# Altium schematic symbol library WE-RJ45 LAN.SchLib: 105 symbols (part 2 of 2)
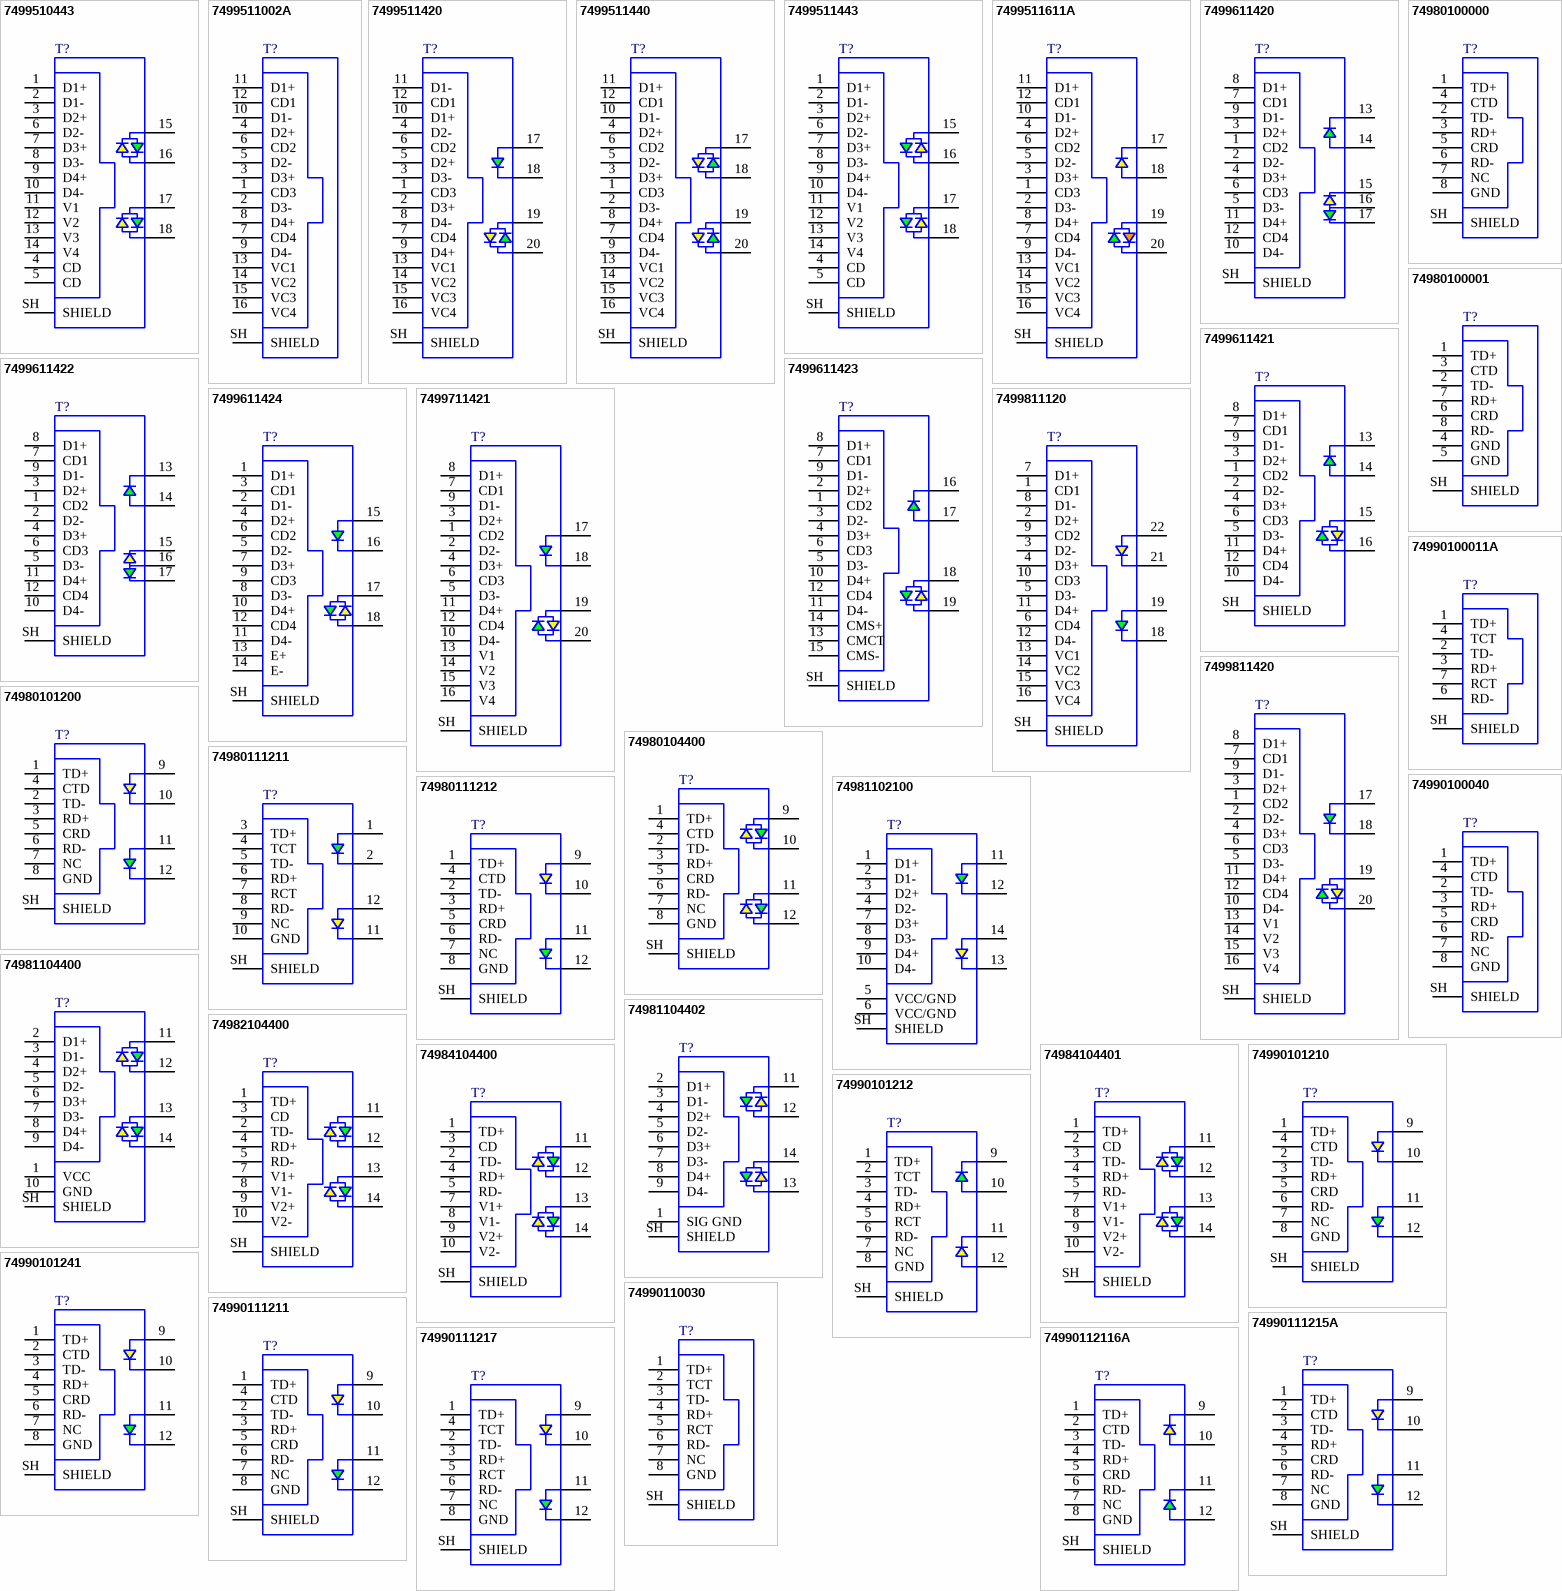
[diagram p4: symbols 7499510443 to 74990112116A]

## 7499510443
designator T?  (value not drawn)
WE-RJ45 LAN Transformer, THT, 1000BASE-T, Tab Down, 1 Port; Manufacturer: Wurth Elektronik; Improved CMRR: No; LED: green/yellow - green/yellow; Number of Ports: 1; PHY Chip Mode: current; PoE: PoE+; Manufacturer Part Number: 7499510443; Product Series: WE-RJ45 LAN; ComponentLink1Description: Website Link; ComponentLink1URL: https://www.we-online.com; ComponentLink2Description: Datasheet Link; ComponentLink2URL: https://www.we-online.com/components/products/datasheet/7499510443; Mount: Through Hole; Operating Temperature Min: -40degC; Operating Temperature Max: 85degC; Packaging: Tray; Data Rate: 1000BASE-T; Shield Tabs: No; Tab: Down
footprint 7499510443
pins: 1 D1+, 2 D1-, 3 D2+, 4 CD, 5 CD, 6 D2-, 7 D3+, 8 D3-, 9 D4+, 10 D4-, 11 V1, 12 V2, 13 V3, 14 V4, 15, 16, 17, 18, SH SHIELD

## 7499511002A
designator T?  (value not drawn)
WE-RJ45 LAN Transformer, THT, 1000BASE-T, Tab Up, 1 Port; Manufacturer: Wurth Elektronik; Improved CMRR: Yes; LED: No LED; Number of Ports: 1; PHY Chip Mode: current & voltage; PoE: PoE+; Manufacturer Part Number: 7499511002A; Product Series: WE-RJ45 LAN; ComponentLink1Description: Website Link; ComponentLink1URL: https://www.we-online.com; ComponentLink2Description: Datasheet Link; ComponentLink2URL: https://www.we-online.com/components/products/datasheet/7499511002A; Mount: Through Hole; Operating Temperature Min: -40degC; Operating Temperature Max: 85degC; Packaging: Tray; Data Rate: 1000BASE-T; Shield Tabs: Yes; Tab: Up
footprint 7499511002A
pins: 1 CD3, 2 D3-, 3 D3+, 4 D2+, 5 D2-, 6 CD2, 7 CD4, 8 D4+, 9 D4-, 10 D1-, 11 D1+, 12 CD1, 13 VC1, 14 VC2, 15 VC3, 16 VC4, SH SHIELD

## 7499511420
designator T?  (value not drawn)
WE-RJ45 LAN Transformer, THT, 1000BASE-T, Tab Up, 1 Port; Manufacturer: Wurth Elektronik; Improved CMRR: No; LED: green/yellow-green; Number of Ports: 1; PHY Chip Mode: current & voltage; PoE: 4PPoE; Shield Tabs: Yes; Manufacturer Part Number: 7499511420; Product Series: WE-RJ45 LAN; ComponentLink1Description: Website Link; ComponentLink1URL: https://www.we-online.com; ComponentLink2Description: Datasheet Link; ComponentLink2URL: https://www.we-online.com/components/products/datasheet/7499511420; Mount: Through Hole; Operating Temperature Min: -40degC; Operating Temperature Max: 85degC; Packaging: Tray; Data Rate: 1000BASE-T; Tab: Up
footprint 7499511420
pins: 1 CD3, 2 D3+, 3 D3-, 4 D2-, 5 D2+, 6 CD2, 7 CD4, 8 D4-, 9 D4+, 10 D1+, 11 D1-, 12 CD1, 13 VC1, 14 VC2, 15 VC3, 16 VC4, 17, 18, 19, 20, SH SHIELD

## 7499511440
designator T?  (value not drawn)
WE-RJ45 LAN Transformer, THT, 1000BASE-T, Tab Up, 1 Port; Manufacturer: Wurth Elektronik; Improved CMRR: No; LED: green/yellow - green/yellow; Number of Ports: 1; PHY Chip Mode: current & voltage; PoE: PoE+; Shield Tabs: Yes; Manufacturer Part Number: 7499511440; Product Series: WE-RJ45 LAN; ComponentLink1Description: Website Link; ComponentLink1URL: https://www.we-online.com; ComponentLink2Description: Datasheet Link; ComponentLink2URL: https://www.we-online.com/components/products/datasheet/7499511440; Mount: Through Hole; Operating Temperature Min: -40degC; Operating Temperature Max: 85degC; Packaging: Tray; Data Rate: 1000BASE-T; Tab: Up
footprint 7499511440
pins: 1 CD3, 2 D3-, 3 D3+, 4 D2+, 5 D2-, 6 CD2, 7 CD4, 8 D4+, 9 D4-, 10 D1-, 11 D1+, 12 CD1, 13 VC1, 14 VC2, 15 VC3, 16 VC4, 17, 18, 19, 20, SH SHIELD

## 7499511443
designator T?  (value not drawn)
WE-RJ45 LAN Transformer, THT, 1000BASE-T, Tab Down, 1 Port; Manufacturer: Wurth Elektronik; Improved CMRR: No; LED: green/yellow - green/yellow; Number of Ports: 1; PHY Chip Mode: current; PoE: PoE+; Shield Tabs: Yes; Manufacturer Part Number: 7499511443; Product Series: WE-RJ45 LAN; ComponentLink1Description: Website Link; ComponentLink1URL: https://www.we-online.com; ComponentLink2Description: Datasheet Link; ComponentLink2URL: https://www.we-online.com/components/products/datasheet/7499511443; Mount: Through Hole; Operating Temperature Min: -40degC; Operating Temperature Max: 85degC; Packaging: Tray; Data Rate: 1000BASE-T; Tab: Down
footprint 7499511443
pins: 1 D1+, 2 D1-, 3 D2+, 4 CD, 5 CD, 6 D2-, 7 D3+, 8 D3-, 9 D4+, 10 D4-, 11 V1, 12 V2, 13 V3, 14 V4, 15, 16, 17, 18, SH SHIELD

## 7499511611A
designator T?  (value not drawn)
WE-RJ45 LAN Transformer, THT, 1000BASE-T, Tab Up, 1 Port; Manufacturer: Wurth Elektronik; Improved CMRR: Yes; LED: green/orange-yellow; Number of Ports: 1; PHY Chip Mode: current & voltage; PoE: PoE+; Manufacturer Part Number: 7499511611A; Product Series: WE-RJ45 LAN; ComponentLink1Description: Website Link; ComponentLink1URL: https://www.we-online.com; ComponentLink2Description: Datasheet Link; ComponentLink2URL: https://www.we-online.com/components/products/datasheet/7499511611A; Mount: Through Hole; Operating Temperature Min: 0degC; Operating Temperature Max: 70degC; Packaging: Tray; Data Rate: 1000BASE-T; Shield Tabs: Yes; Tab: Up
footprint 7499511611A
pins: 1 CD3, 2 D3-, 3 D3+, 4 D2+, 5 D2-, 6 CD2, 7 CD4, 8 D4+, 9 D4-, 10 D1-, 11 D1+, 12 CD1, 13 VC1, 14 VC2, 15 VC3, 16 VC4, 17, 18, 19, 20, SH SHIELD

## 7499611420
designator T?  (value not drawn)
WE-RJ45 10G Transformer, THT, 10GBASE-T, Tab Up, 1 Port; Manufacturer: Wurth Elektronik; Product Series: WE-RJ45 LAN; Improved CMRR: No; LED: yellow/green-green; Number of Ports: 1; PHY Chip Mode: current & voltage; PoE: non-PoE; Shield Tabs: Yes; Manufacturer Part Number: 7499611420; ComponentLink1Description: Website Link; ComponentLink1URL: https://www.we-online.com; ComponentLink2Description: Datasheet Link; ComponentLink2URL: https://www.we-online.com/components/products/datasheet/7499611420; Mount: Through Hole; Operating Temperature Min: -40degC; Operating Temperature Max: 85degC; Packaging: Tube; Data Rate: 10GBASE-T; Tab: Up; USB: No
footprint 7499611420
pins: 1 CD2, 2 D2-, 3 D2+, 4 D3+, 5 D3-, 6 CD3, 7 CD1, 8 D1+, 9 D1-, 10 D4-, 11 D4+, 12 CD4, 13, 14, 15, 16, 17, SH SHIELD

## 7499611421
designator T?  (value not drawn)
WE-RJ45 10G Transformer, THT, 10GBASE-T, Tab Up, 1 Port; Manufacturer: Wurth Elektronik; Product Series: WE-RJ45 LAN; Improved CMRR: No; LED: yellow/green-green; Number of Ports: 1; PHY Chip Mode: current & voltage; PoE: non-PoE; Shield Tabs: Yes; Manufacturer Part Number: 7499611421; ComponentLink1Description: Website Link; ComponentLink1URL: https://www.we-online.com; ComponentLink2Description: Datasheet Link; ComponentLink2URL: https://www.we-online.com/components/products/datasheet/7499611421; Mount: Through Hole; Operating Temperature Min: 0degC; Operating Temperature Max: 70degC; Packaging: Tube; Data Rate: 10GBASE-T; Tab: Up; USB: No
footprint 7499611421
pins: 1 CD2, 2 D2-, 3 D2+, 4 D3+, 5 D3-, 6 CD3, 7 CD1, 8 D1+, 9 D1-, 10 D4-, 11 D4+, 12 CD4, 13, 14, 15, 16, SH SHIELD

## 7499611422
designator T?  (value not drawn)
WE-RJ45 10G Transformer, THT, 10GBASE-T, Tab Down, 1 Port; Manufacturer: Wurth Elektronik; Product Series: WE-RJ45 LAN; Improved CMRR: No; LED: yellow/green-green; Number of Ports: 1; PHY Chip Mode: current & voltage; PoE: non-PoE; Shield Tabs: Yes; Manufacturer Part Number: 7499611422; ComponentLink1Description: Website Link; ComponentLink1URL: https://www.we-online.com; ComponentLink2Description: Datasheet Link; ComponentLink2URL: https://www.we-online.com/components/products/datasheet/7499611422; Mount: Through Hole; Operating Temperature Min: -40degC; Operating Temperature Max: 85degC; Packaging: Tray; Data Rate: 10GBASE-T; Tab: Down; USB: No
footprint 7499611422
pins: 1 CD2, 2 D2-, 3 D2+, 4 D3+, 5 D3-, 6 CD3, 7 CD1, 8 D1+, 9 D1-, 10 D4-, 11 D4+, 12 CD4, 13, 14, 15, 16, 17, SH SHIELD

## 7499611423
designator T?  (value not drawn)
WE-RJ45 10G Transformer, THT, 10GBASE-T, Tab Down, 1 Port; Manufacturer: Wurth Elektronik; Product Series: WE-RJ45 LAN; Improved CMRR: No; LED: yellow/green-green; Number of Ports: 1; PHY Chip Mode: current & voltage; PoE: non-PoE; Shield Tabs: Yes; Manufacturer Part Number: 7499611423; ComponentLink1Description: Website Link; ComponentLink1URL: https://www.we-online.com; ComponentLink2Description: Datasheet Link; ComponentLink2URL: https://www.we-online.com/components/products/datasheet/7499611423; Mount: Through Hole; Operating Temperature Min: -40degC; Operating Temperature Max: 85degC; Packaging: Tray; Data Rate: 10GBASE-T; Tab: Down; USB: No
footprint 7499611423
pins: 1 CD2, 2 D2+, 3 D2-, 4 D3+, 5 D3-, 6 CD3, 7 CD1, 8 D1+, 9 D1-, 10 D4+, 11 D4-, 12 CD4, 13 CMCT, 14 CMS+, 15 CMS-, 16, 17, 18, 19, SH SHIELD

## 7499611424
designator T?  (value not drawn)
WE-RJ45 10G Transformer, THT, 10GBASE-T, Tab Up, 1 Port; Manufacturer: Wurth Elektronik; Product Series: WE-RJ45 LAN; Improved CMRR: No; LED: yellow/green-green; Number of Ports: 1; PHY Chip Mode: current & voltage; PoE: non-PoE; Shield Tabs: Yes; Manufacturer Part Number: 7499611424; ComponentLink1Description: Website Link; ComponentLink1URL: https://www.we-online.com; ComponentLink2Description: Datasheet Link; ComponentLink2URL: https://www.we-online.com/components/products/datasheet/7499611424; Mount: Through Hole; Operating Temperature Min: -40degC; Operating Temperature Max: 85degC; Packaging: Tray; Data Rate: 10GBASE-T; Tab: Up; USB: No
footprint 7499611424
pins: 1 D1+, 2 D1-, 3 CD1, 4 D2+, 5 D2-, 6 CD2, 7 D3+, 8 D3-, 9 CD3, 10 D4+, 11 D4-, 12 CD4, 13 E+, 14 E-, 15, 16, 17, 18, SH SHIELD

## 7499711421
designator T?  (value not drawn)
WE-RJ45 10G Transformer, THT, 10GBASE-T, Tab Up, 1 Port; Manufacturer: Wurth Elektronik; Product Series: WE-RJ45 LAN; Improved CMRR: No; LED: yellow/green-green; Number of Ports: 1; PHY Chip Mode: current & voltage; Shield Tabs: Yes; Manufacturer Part Number: 7499711421; ComponentLink1Description: Website Link; ComponentLink1URL: https://www.we-online.com; ComponentLink2Description: Datasheet Link; ComponentLink2URL: https://www.we-online.com/components/products/datasheet/7499711421; Mount: Through Hole; Operating Temperature Min: -40degC; Operating Temperature Max: 85degC; Packaging: Tube; Data Rate: 10GBASE-T; PoE: PoE; Tab: Up; USB: No
footprint 7499711421
pins: 1 CD2, 2 D2-, 3 D2+, 4 D3+, 5 D3-, 6 CD3, 7 CD1, 8 D1+, 9 D1-, 10 D4-, 11 D4+, 12 CD4, 13 V1, 14 V2, 15 V3, 16 V4, 17, 18, 19, 20, SH SHIELD

## 7499811120
designator T?  (value not drawn)
WE-RJ45 10G Transformer, THT, 10GBASE-T, Tab Down, 1 Port; Manufacturer: Wurth Elektronik; Product Series: WE-RJ45 LAN; Improved CMRR: No; LED: yellow-green; Number of Ports: 1; PHY Chip Mode: current & voltage; PoE: 4PPoE; Shield Tabs: Yes; Manufacturer Part Number: 7499811120; ComponentLink1Description: Website Link; ComponentLink1URL: https://www.we-online.com; ComponentLink2Description: Datasheet Link; ComponentLink2URL: https://www.we-online.com/components/products/datasheet/7499811120; Mount: Through Hole; Operating Temperature Min: -40degC; Operating Temperature Max: 85degC; Packaging: Tray; Data Rate: 10GBASE-T; Tab: Down; USB: No
footprint 7499811120
pins: 1 CD1, 2 D2+, 3 D2-, 4 D3+, 5 D3-, 6 CD4, 7 D1+, 8 D1-, 9 CD2, 10 CD3, 11 D4+, 12 D4-, 13 VC1, 14 VC2, 15 VC3, 16 VC4, 18, 19, 21, 22, SH SHIELD

## 7499811420
designator T?  (value not drawn)
WE-RJ45 10G Transformer, THT, 10GBASE-T, Tab Up, 1 Port; Manufacturer: Wurth Elektronik; Product Series: WE-RJ45 LAN; Improved CMRR: No; LED: yellow/green-green; Number of Ports: 1; PHY Chip Mode: current & voltage; PoE: PoE+; Shield Tabs: Yes; Manufacturer Part Number: 7499811420; ComponentLink1Description: Website Link; ComponentLink1URL: https://www.we-online.com; ComponentLink2Description: Datasheet Link; ComponentLink2URL: https://www.we-online.com/components/products/datasheet/7499811420; Mount: Through Hole; Operating Temperature Min: -40degC; Operating Temperature Max: 85degC; Packaging: Tube; Data Rate: 10GBASE-T; Tab: Up; USB: No
footprint 7499811420
pins: 1 CD2, 2 D2-, 3 D2+, 4 D3+, 5 D3-, 6 CD3, 7 CD1, 8 D1+, 9 D1-, 10 D4-, 11 D4+, 12 CD4, 13 V1, 14 V2, 15 V3, 16 V4, 17, 18, 19, 20, SH SHIELD

## 74980100000
designator T?  (value not drawn)
WE-RJ45 LAN Through Hole Reflow, THR, 10/100BASE-TX, Tab Vertical, 1 Port; Manufacturer: Wurth Elektronik; Improved CMRR: No; LED: No LED; Number of Ports: 1; PHY Chip Mode: current & voltage; PoE: non-PoE; Manufacturer Part Number: 74980100000; Product Series: WE-RJ45 LAN; ComponentLink1Description: Website Link; ComponentLink1URL: https://www.we-online.com; ComponentLink2Description: Datasheet Link; ComponentLink2URL: https://www.we-online.com/components/products/datasheet/74980100000; Mount: Through Hole Reflow; Operating Temperature Min: -40degC; Operating Temperature Max: 85degC; Packaging: Tape and Reel; Data Rate: 10/100BASE-TX; Shield Tabs: No; Tab: Vertical; USB: No
footprint 74980100000
pins: 1 TD+, 2 TD-, 3 RD+, 4 CTD, 5 CRD, 6 RD-, 7 NC, 8 GND, SH SHIELD

## 74980100001
designator T?  (value not drawn)
WE-RJ45 LAN Through Hole Reflow, THR, 10/100BASE-TX, Tab Down, 1 Port; Manufacturer: Wurth Elektronik; Improved CMRR: No; LED: No LED; Number of Ports: 1; PHY Chip Mode: current & voltage; PoE: non-PoE; Manufacturer Part Number: 74980100001; Product Series: WE-RJ45 LAN; ComponentLink1Description: Website Link; ComponentLink1URL: https://www.we-online.com; ComponentLink2Description: Datasheet Link; ComponentLink2URL: https://www.we-online.com/components/products/datasheet/74980100001; Mount: Through Hole Reflow; Operating Temperature Min: -40degC; Operating Temperature Max: 85degC; Packaging: Tape and Reel; Data Rate: 10/100BASE-TX; Shield Tabs: No; Tab: Down; USB: No
footprint 74980100001
pins: 1 TD+, 2 TD-, 3 CTD, 4 GND, 5 GND, 6 CRD, 7 RD+, 8 RD-, SH SHIELD

## 74980101200
designator T?  (value not drawn)
WE-RJ45 LAN Through Hole Reflow, THR, 10/100BASE-TX, Tab Vertical, 1 Port; Manufacturer: Wurth Elektronik; Improved CMRR: No; LED: yellow-green; Number of Ports: 1; PHY Chip Mode: current & voltage; PoE: non-PoE; Manufacturer Part Number: 74980101200; Product Series: WE-RJ45 LAN; ComponentLink1Description: Website Link; ComponentLink1URL: https://www.we-online.com; ComponentLink2Description: Datasheet Link; ComponentLink2URL: https://www.we-online.com/components/products/datasheet/74980101200; Mount: Through Hole Reflow; Operating Temperature Min: -40degC; Operating Temperature Max: 85degC; Packaging: Tape and Reel; Data Rate: 10/100BASE-TX; Shield Tabs: No; Tab: Vertical; USB: No
footprint 74980101200
pins: 1 TD+, 2 TD-, 3 RD+, 4 CTD, 5 CRD, 6 RD-, 7 NC, 8 GND, 9, 10, 11, 12, SH SHIELD

## 74980104400
designator T?  (value not drawn)
WE-RJ45 LAN Through Hole Reflow, THR, 100BASE-TX, Tab Up, 1 Port; Manufacturer: Wurth Elektronik; Improved CMRR: No; LED: green/yellow - green/yellow; Number of Ports: 1; PHY Chip Mode: current & voltage; PoE: non-PoE; Manufacturer Part Number: 74980104400; Product Series: WE-RJ45 LAN; ComponentLink1Description: Website Link; ComponentLink1URL: https://www.we-online.com; ComponentLink2Description: Datasheet Link; ComponentLink2URL: https://www.we-online.com/components/products/datasheet/74980104400; Mount: Through Hole Reflow; Operating Temperature Min: -40degC; Operating Temperature Max: 85degC; Packaging: Tape and Reel; Data Rate: 100BASE-TX; Shield Tabs: No; Tab: Up; USB: No
footprint 74980104400
pins: 1 TD+, 2 TD-, 3 RD+, 4 CTD, 5 CRD, 6 RD-, 7 NC, 8 GND, 9, 10, 11, 12, SH SHIELD

## 74980111211
designator T?  (value not drawn)
WE-RJ45 LAN Transformer, SMT, 10/100BASE-T, Tab Up, 1 Port; Manufacturer: Wurth Elektronik; Improved CMRR: No; LED: yellow-green; Number of Ports: 1; PHY Chip Mode: current & voltage; PoE: non-PoE; Shield Tabs: Yes; Manufacturer Part Number: 74980111211; Product Series: WE-RJ45 LAN; ComponentLink1Description: Website Link; ComponentLink1URL: https://www.we-online.com; ComponentLink2Description: Datasheet Link; ComponentLink2URL: https://www.we-online.com/components/products/datasheet/74980111211; Mount: Surface Mount; Operating Temperature Min: -40degC; Operating Temperature Max: 85degC; Packaging: Tape and Reel; Data Rate: 10/100BASE-T; Tab: Up
footprint 74980111211
pins: 1, 2, 3 TD+, 4 TCT, 5 TD-, 6 RD+, 7 RCT, 8 RD-, 9 NC, 10 GND, 11, 12, SH SHIELD

## 74980111212
designator T?  (value not drawn)
WE-RJ45 LAN Through Hole Reflow, THR, 100BASE-TX, Tab Down, 1 Port; Manufacturer: Wurth Elektronik; Improved CMRR: No; LED: yellow-green; Number of Ports: 1; PHY Chip Mode: current & voltage; PoE: non-PoE; Shield Tabs: Yes; Manufacturer Part Number: 74980111212; Product Series: WE-RJ45 LAN; ComponentLink1Description: Website Link; ComponentLink1URL: https://www.we-online.com; ComponentLink2Description: Datasheet Link; ComponentLink2URL: https://www.we-online.com/components/products/datasheet/74980111212; Mount: Through Hole Reflow; Operating Temperature Min: -40degC; Operating Temperature Max: 85degC; Packaging: Tape and Reel; Data Rate: 100BASE-TX; Tab: Down; USB: No
footprint 74980111212
pins: 1 TD+, 2 TD-, 3 RD+, 4 CTD, 5 CRD, 6 RD-, 7 NC, 8 GND, 9, 10, 11, 12, SH SHIELD

## 74981102100
designator T?  (value not drawn)
WE-RJ45 LAN Through Hole Reflow, THR, 10/100/1000BASE-T, Tab Vertical, 1 Port; Manufacturer: Wurth Elektronik; Improved CMRR: No; LED: green-yellow; Number of Ports: 1; PHY Chip Mode: current; PoE: non-PoE; Manufacturer Part Number: 74981102100; Product Series: WE-RJ45 LAN; ComponentLink1Description: Website Link; ComponentLink1URL: https://www.we-online.com; ComponentLink2Description: Datasheet Link; ComponentLink2URL: https://www.we-online.com/components/products/datasheet/74981102100; Mount: Through Hole Reflow; Operating Temperature Min: -40degC; Operating Temperature Max: 85degC; Packaging: Tape and Reel; Data Rate: 10/100/1000BASE-T; Shield Tabs: No; Tab: Vertical; USB: No
footprint 74981102100
pins: 1 D1+, 2 D1-, 3 D2+, 4 D2-, 5 VCC/GND, 6 VCC/GND, 7 D3+, 8 D3-, 9 D4+, 10 D4-, 11, 12, 13, 14, SH SHIELD

## 74981104400
designator T?  (value not drawn)
WE-RJ45 LAN Through Hole Reflow, THR, 1000BASE-T, Tab Up, 1 Port; Manufacturer: Wurth Elektronik; Improved CMRR: No; LED: green/yellow - green/yellow; Number of Ports: 1; PHY Chip Mode: current; PoE: non-PoE; Manufacturer Part Number: 74981104400; Product Series: WE-RJ45 LAN; ComponentLink1Description: Website Link; ComponentLink1URL: https://www.we-online.com; ComponentLink2Description: Datasheet Link; ComponentLink2URL: https://www.we-online.com/components/products/datasheet/74981104400; Mount: Through Hole Reflow; Operating Temperature Min: -40degC; Operating Temperature Max: 85degC; Packaging: Tape and Reel; Data Rate: 1000BASE-T; Shield Tabs: No; Tab: Up; USB: No
footprint 74981104400
pins: 1 VCC, 2 D1+, 3 D1-, 4 D2+, 5 D2-, 6 D3+, 7 D3-, 8 D4+, 9 D4-, 10 GND, 11, 12, 13, 14, SH SHIELD

## 74981104402
designator T?  (value not drawn)
WE-RJ45 LAN Transformer, THR, 1000BASE-T, Tab Vertical, 1 Port; Manufacturer: Wurth Elektronik; Improved CMRR: No; LED: yellow/green-yellow/green; Number of Ports: 1; PHY Chip Mode: voltage; PoE: non-PoE; Manufacturer Part Number: 74981104402; Product Series: WE-RJ45 LAN; ComponentLink1Description: Website Link; ComponentLink1URL: https://www.we-online.com; ComponentLink2Description: Datasheet Link; ComponentLink2URL: https://www.we-online.com/components/products/datasheet/74981104402; Mount: Through Hole Reflow; Operating Temperature Min: -40degC; Operating Temperature Max: 85degC; Packaging: Tape and Reel; Data Rate: 1000BASE-T; Shield Tabs: No; Tab: Vertical
footprint 74981104402
pins: 1 SIG GND, 2 D1+, 3 D1-, 4 D2+, 5 D2-, 6 D3+, 7 D3-, 8 D4+, 9 D4-, 11, 12, 13, 14, SH SHIELD

## 74982104400
designator T?  (value not drawn)
WE-RJ45 LAN Through Hole Reflow, THR, 100BASE-TX, Tab Up, 1 Port; Manufacturer: Wurth Elektronik; Improved CMRR: No; LED: green/yellow - green/yellow; Number of Ports: 1; PHY Chip Mode: current; Manufacturer Part Number: 74982104400; Product Series: WE-RJ45 LAN; ComponentLink1Description: Website Link; ComponentLink1URL: https://www.we-online.com; ComponentLink2Description: Datasheet Link; ComponentLink2URL: https://www.we-online.com/components/products/datasheet/74982104400; Mount: Through Hole Reflow; Operating Temperature Min: -40degC; Operating Temperature Max: 85degC; Packaging: Tape and Reel; Data Rate: 100BASE-TX; PoE: PoE; Shield Tabs: No; Tab: Up; USB: No
footprint 74982104400
pins: 1 TD+, 2 TD-, 3 CD, 4 RD+, 5 RD-, 7 V1+, 8 V1-, 9 V2+, 10 V2-, 11, 12, 13, 14, SH SHIELD

## 74984104400
designator T?  (value not drawn)
WE-RJ45 LAN Through Hole Reflow, THR, 100BASE-TX, Tab Up, 1 Port; Manufacturer: Wurth Elektronik; Improved CMRR: No; LED: green/yellow - green/yellow; Number of Ports: 1; PHY Chip Mode: current; PoE: PoE+; Manufacturer Part Number: 74984104400; Product Series: WE-RJ45 LAN; ComponentLink1Description: Website Link; ComponentLink1URL: https://www.we-online.com; ComponentLink2Description: Datasheet Link; ComponentLink2URL: https://www.we-online.com/components/products/datasheet/74984104400; Mount: Through Hole Reflow; Operating Temperature Min: -40degC; Operating Temperature Max: 85degC; Packaging: Tape and Reel; Data Rate: 100BASE-TX; Shield Tabs: No; Tab: Up; USB: No
footprint 74984104400
pins: 1 TD+, 2 TD-, 3 CD, 4 RD+, 5 RD-, 7 V1+ , 8 V1-, 9 V2+, 10 V2-, 11, 12, 13, 14, SH SHIELD

## 74984104401
designator T?  (value not drawn)
WE-RJ45 LAN Through Hole Reflow, THR, 10/100BASE-TX, Tab Vertical, 1 Port; Manufacturer: Wurth Elektronik; Improved CMRR: No; LED: yellow/green-yellow/green; Number of Ports: 1; PHY Chip Mode: current; PoE: PoE+; Manufacturer Part Number: 74984104401; Product Series: WE-RJ45 LAN; ComponentLink1Description: Website Link; ComponentLink1URL: https://www.we-online.com; ComponentLink2Description: Datasheet Link; ComponentLink2URL: https://www.we-online.com/components/products/datasheet/74984104401; Mount: Through Hole Reflow; Operating Temperature Min: -40degC; Operating Temperature Max: 85degC; Packaging: Tape and Reel; Data Rate: 10/100BASE-TX; Shield Tabs: No; Tab: Vertical; USB: No
footprint 74984104401
pins: 1 TD+, 2 CD, 3 TD-, 4 RD+, 5 RD-, 7 V1+, 8 V1-, 9 V2+ (power), 10 V2- (power), 11, 12, 13, 14, SH SHIELD

## 74990100011A
designator T?  (value not drawn)
WE-RJ45 LAN Transformer, THT, 10/100BASE-T, Tab Up, 1 Port; Manufacturer: Wurth Elektronik; Improved CMRR: No; LED: No LED; Number of Ports: 1; PHY Chip Mode: current & voltage; PoE: non-PoE; Manufacturer Part Number: 74990100011A; Product Series: WE-RJ45 LAN; ComponentLink1Description: Website Link; ComponentLink1URL: https://www.we-online.com; ComponentLink2Description: Datasheet Link; ComponentLink2URL: https://www.we-online.com/components/products/datasheet/74990100011A; Mount: Through Hole; Operating Temperature Min: -40degC; Operating Temperature Max: 85degC; Packaging: Tube; Data Rate: 10/100BASE-T; Shield Tabs: No; Tab: Up
footprint 74990100011A
pins: 1 TD+, 2 TD-, 3 RD+, 4 TCT, 6 RD-, 7 RCT, SH SHIELD

## 74990100040
designator T?  (value not drawn)
WE-RJ45 LAN Transformer, THT, 100BASE-TX, Tab Down, 1 Port; Manufacturer: Wurth Elektronik; Improved CMRR: No; LED: No LED; Number of Ports: 1; PHY Chip Mode: current & voltage; PoE: non-PoE; Manufacturer Part Number: 74990100040; Product Series: WE-RJ45 LAN; ComponentLink1Description: Website Link; ComponentLink1URL: https://www.we-online.com; ComponentLink2Description: Datasheet Link; ComponentLink2URL: https://www.we-online.com/components/products/datasheet/74990100040; Mount: Through Hole; Operating Temperature Min: -40degC; Operating Temperature Max: 85degC; Packaging: Tube; Data Rate: 100BASE-TX; Shield Tabs: No; Tab: Down
footprint 74990100040
pins: 1 TD+, 2 TD-, 3 RD+, 4 CTD, 5 CRD, 6 RD-, 7 NC, 8 GND, SH SHIELD

## 74990101210
designator T?  (value not drawn)
WE-RJ45 LAN Transformer, THT, 10/100BASE-T, Tab Vertical, 1 Port; Manufacturer: Wurth Elektronik; Improved CMRR: No; LED: green-yellow; Number of Ports: 1; PHY Chip Mode: current & voltage; PoE: non-PoE; Manufacturer Part Number: 74990101210; Product Series: WE-RJ45 LAN; ComponentLink1Description: Website Link; ComponentLink1URL: https://www.we-online.com; ComponentLink2Description: Datasheet Link; ComponentLink2URL: https://www.we-online.com/components/products/datasheet/74990101210; Mount: Through Hole; Operating Temperature Min: -40degC; Operating Temperature Max: 85degC; Packaging: Tube; Data Rate: 10/100BASE-T; Shield Tabs: No; Tab: Vertical
footprint 74990101210
pins: 1 TD+, 2 TD-, 3 RD+, 4 CTD, 5 CRD, 6 RD-, 7 NC, 8 GND, 9, 10, 11, 12, SH SHIELD

## 74990101212
designator T?  (value not drawn)
WE-RJ45 LAN Transformer, THT, 100BASE-TX, Tab Up, 1 Port; Manufacturer: Wurth Elektronik; Improved CMRR: No; LED: yellow-green; Number of Ports: 1; PHY Chip Mode: current & voltage; PoE: non-PoE; Manufacturer Part Number: 74990101212; Product Series: WE-RJ45 LAN; ComponentLink1Description: Website Link; ComponentLink1URL: https://www.we-online.com; ComponentLink2Description: Datasheet Link; ComponentLink2URL: https://www.we-online.com/components/products/datasheet/74990101212; Mount: Through Hole; Operating Temperature Min: -40degC; Operating Temperature Max: 85degC; Packaging: Tube; Data Rate: 100BASE-TX; Shield Tabs: No; Tab: Up
footprint 74990101212
pins: 1 TD+, 2 TCT, 3 TD-, 4 RD+, 5 RCT, 6 RD-, 7 NC, 8 GND, 9, 10, 11, 12, SH SHIELD

## 74990101241
designator T?  (value not drawn)
WE-RJ45 LAN Transformer, THT, 10/100BASE-T, Tab Vertical, 1 Port; Manufacturer: Wurth Elektronik; Improved CMRR: No; LED: green-yellow; Number of Ports: 1; PHY Chip Mode: current & voltage; PoE: non-PoE; Manufacturer Part Number: 74990101241; Product Series: WE-RJ45 LAN; ComponentLink1Description: Website Link; ComponentLink1URL: https://www.we-online.com; ComponentLink2Description: Datasheet Link; ComponentLink2URL: https://www.we-online.com/components/products/datasheet/74990101241; Mount: Through Hole; Operating Temperature Min: -40degC; Operating Temperature Max: 85degC; Packaging: Tube; Data Rate: 10/100BASE-T; Shield Tabs: No; Tab: Vertical
footprint 74990101241
pins: 1 TD+, 2 CTD, 3 TD-, 4 RD+, 5 CRD, 6 RD-, 7 NC, 8 GND, 9, 10, 11, 12, SH SHIELD

## 74990110030
designator T?  (value not drawn)
WE-RJ45 LAN Transformer, THT, 100BASE-TX, Tab Up, 1x1 Port; Manufacturer: Wurth Elektronik; Improved CMRR: No; PHY Chip Mode: current & voltage; PoE: non-PoE; Shield Tabs: Yes; Manufacturer Part Number: 74990110030; Product Series: WE-RJ45 LAN; ComponentLink1Description: Website Link; ComponentLink1URL: https://www.we-online.com; ComponentLink2Description: Datasheet Link; ComponentLink2URL: https://www.we-online.com/components/products/datasheet/74990110030; Mount: Through Hole; Operating Temperature Min: -40degC; Operating Temperature Max: 85degC; Packaging: Tube; Data Rate: 100BASE-TX; Number of Ports: 1x1; Tab: Up
footprint 74990110030
pins: 1 TD+, 2 TCT, 3 TD-, 4 RD+, 5 RCT, 6 RD-, 7 NC, 8 GND, SH SHIELD

## 74990111211
designator T?  (value not drawn)
WE-RJ45 LAN Transformer, THT, 100BASE-TX, Tab Down, 1 Port; Manufacturer: Wurth Elektronik; Improved CMRR: No; LED: yellow-green; Number of Ports: 1; PHY Chip Mode: current & voltage; PoE: non-PoE; Shield Tabs: Yes; Manufacturer Part Number: 74990111211; Product Series: WE-RJ45 LAN; ComponentLink1Description: Website Link; ComponentLink1URL: https://www.we-online.com; ComponentLink2Description: Datasheet Link; ComponentLink2URL: https://www.we-online.com/components/products/datasheet/74990111211; Mount: Through Hole; Operating Temperature Min: -40degC; Operating Temperature Max: 85degC; Packaging: Tube; Data Rate: 100BASE-TX; Tab: Down
footprint 74990111211
pins: 1 TD+, 2 TD-, 3 RD+, 4 CTD, 5 CRD, 6 RD-, 7 NC, 8 GND, 9, 10, 11, 12, SH SHIELD

## 74990111215A
designator T?  (value not drawn)
WE-RJ45 LAN Transformer, THT, 100BASE-TX, Tab Down, 1x1 Port; Manufacturer: Wurth Elektronik; Improved CMRR: Yes; LED: yellow-green; PHY Chip Mode: current & voltage; PoE: non-PoE; Manufacturer Part Number: 74990111215A; Product Series: WE-RJ45 LAN; ComponentLink1Description: Website Link; ComponentLink1URL: https://www.we-online.com; ComponentLink2Description: Datasheet Link; ComponentLink2URL: https://www.we-online.com/components/products/datasheet/74990111215A; Mount: Through Hole; Operating Temperature Min: 0degC; Operating Temperature Max: 70degC; Packaging: Tube; Data Rate: 100BASE-TX; Number of Ports: 1x1; Shield Tabs: Yes; Tab: Down
footprint 74990111215A
pins: 1 TD+, 2 CTD, 3 TD-, 4 RD+, 5 CRD, 6 RD-, 7 NC, 8 GND, 9, 10, 11, 12, SH SHIELD

## 74990111217
designator T?  (value not drawn)
WE-RJ45 LAN Transformer, THT, 10/100BASE-T, Tab Up, 1 Port; Manufacturer: Wurth Elektronik; Improved CMRR: No; LED: yellow-green; Number of Ports: 1; PHY Chip Mode: current & voltage; PoE: non-PoE; Shield Tabs: Yes; Manufacturer Part Number: 74990111217; Product Series: WE-RJ45 LAN; ComponentLink1Description: Website Link; ComponentLink1URL: https://www.we-online.com; ComponentLink2Description: Datasheet Link; ComponentLink2URL: https://www.we-online.com/components/products/datasheet/74990111217; Mount: Through Hole; Operating Temperature Min: -40degC; Operating Temperature Max: 85degC; Packaging: Tube; Data Rate: 10/100BASE-T; Tab: Up
footprint 74990111217
pins: 1 TD+, 2 TD-, 3 RD+, 4 TCT, 5 RCT, 6 RD-, 7 NC, 8 GND, 9, 10, 11, 12, SH SHIELD

## 74990112116A
designator T?  (value not drawn)
WE-RJ45 LAN Transformer, THT, 100BASE-TX, Tab Up, 1x1 Port; Manufacturer: Wurth Elektronik; Improved CMRR: No; LED: green-yellow; PHY Chip Mode: current & voltage; PoE: non-PoE; Shield Tabs: Yes; Manufacturer Part Number: 74990112116A; Product Series: WE-RJ45 LAN; ComponentLink1Description: Website Link; ComponentLink1URL: https://www.we-online.com; ComponentLink2Description: Datasheet Link; ComponentLink2URL: https://www.we-online.com/components/products/datasheet/74990112116A; Mount: Through Hole; Operating Temperature Min: -40degC; Operating Temperature Max: 85degC; Packaging: Tube; Data Rate: 100BASE-TX; Number of Ports: 1x1; Tab: Up
footprint 74990112116A
pins: 1 TD+, 2 CTD, 3 TD-, 4 RD+, 5 CRD, 6 RD-, 7 NC, 8 GND, 9, 10, 11, 12, SH SHIELD

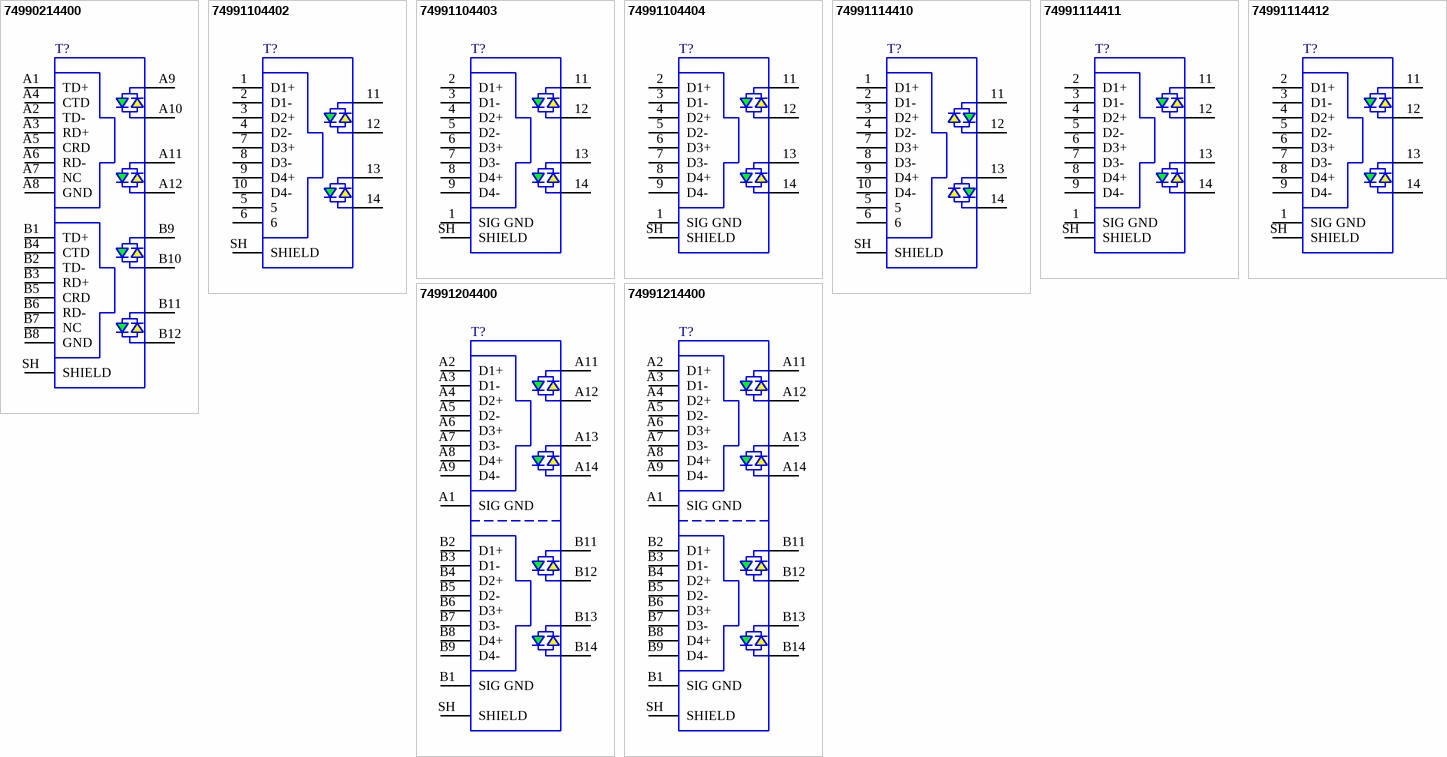
[diagram p3: symbols 74990214400 to 74991214400]

## 74990214400
designator T?  (value not drawn)
WE-RJ45 LAN Transformer, THT, 10/100BASE-T, Tab Up, 1x2 Port; Manufacturer: Wurth Elektronik; Improved CMRR: No; LED: yellow-green; PHY Chip Mode: current & voltage; PoE: non-PoE; Shield Tabs: Yes; Manufacturer Part Number: 74990214400; Product Series: WE-RJ45 LAN; ComponentLink1Description: Website Link; ComponentLink1URL: https://www.we-online.com; ComponentLink2Description: Datasheet Link; ComponentLink2URL: https://www.we-online.com/components/products/datasheet/74990214400; Mount: Through Hole; Operating Temperature Min: -40degC; Operating Temperature Max: 85degC; Packaging: Tray; Data Rate: 10/100BASE-T; Number of Ports: 1x2; Tab: Up
footprint 74990214400
pins: A1 TD+, A2 TD-, A3 RD+, A4 CTD, A5 CRD, A6 RD-, A7 NC, A8 GND, A9, A10, A11, A12, B1 TD+, B2 TD-, B3 RD+, B4 CTD, B5 CRD, B6 RD-, B7 NC, B8 GND, B9, B10, B11, B12, SH SHIELD

## 74991104402
designator T?  (value not drawn)
WE-RJ45 LAN Transformer, THT, 1000BASE-T, Tab Vertical, 1 Port; Manufacturer: Wurth Elektronik; Improved CMRR: No; LED: yellow/green-yellow/green; Number of Ports: 1; PHY Chip Mode: current; PoE: non-PoE; Manufacturer Part Number: 74991104402; Product Series: WE-RJ45 LAN; ComponentLink1Description: Website Link; ComponentLink1URL: https://www.we-online.com; ComponentLink2Description: Datasheet Link; ComponentLink2URL: https://www.we-online.com/components/products/datasheet/74991104402; Mount: Through Hole; Operating Temperature Min: -40degC; Operating Temperature Max: 85degC; Packaging: Tray; Data Rate: 1000BASE-T; Shield Tabs: No; Tab: Vertical
footprint 74991104402
pins: 1 D1+, 2 D1-, 3 D2+, 4 D2-, 5, 6, 7 D3+, 8 D3-, 9 D4+, 10 D4-, 11, 12, 13, 14, SH SHIELD

## 74991104403
designator T?  (value not drawn)
WE-RJ45 LAN Transformer, THT, 1000BASE-T, Tab Down, 1 Port; Manufacturer: Wurth Elektronik; Improved CMRR: No; LED: yellow/green-yellow/green; Number of Ports: 1; PHY Chip Mode: voltage; PoE: non-PoE; Manufacturer Part Number: 74991104403; Product Series: WE-RJ45 LAN; ComponentLink1Description: Website Link; ComponentLink1URL: https://www.we-online.com; ComponentLink2Description: Datasheet Link; ComponentLink2URL: https://www.we-online.com/components/products/datasheet/74991104403; Mount: Through Hole; Operating Temperature Min: -40degC; Operating Temperature Max: 85degC; Packaging: Tape and Reel; Data Rate: 1000BASE-T; Shield Tabs: No; Tab: Down
footprint 74991104403
pins: 1 SIG GND, 2 D1+, 3 D1-, 4 D2+, 5 D2-, 6 D3+, 7 D3-, 8 D4+, 9 D4-, 11, 12, 13, 14, SH SHIELD

## 74991104404
designator T?  (value not drawn)
WE-RJ45 LAN Transformer, THT, 1000BASE-T, Tab Up, 1 Port; Manufacturer: Wurth Elektronik; Improved CMRR: No; LED: yellow/green-yellow/green; Number of Ports: 1; PHY Chip Mode: voltage; PoE: non-PoE; Manufacturer Part Number: 74991104404; Product Series: WE-RJ45 LAN; ComponentLink1Description: Website Link; ComponentLink1URL: https://www.we-online.com; ComponentLink2Description: Datasheet Link; ComponentLink2URL: https://www.we-online.com/components/products/datasheet/74991104404; Mount: Through Hole; Operating Temperature Min: -40degC; Operating Temperature Max: 85degC; Packaging: Tape and Reel; Data Rate: 1000BASE-T; Shield Tabs: No; Tab: Up
footprint 74991104404
pins: 1 SIG GND, 2 D1+, 3 D1-, 4 D2+, 5 D2-, 6 D3+, 7 D3-, 8 D4+, 9 D4-, 11, 12, 13, 14, SH SHIELD

## 74991114410
designator T?  (value not drawn)
WE-RJ45 LAN Transformer, THT, 1000BASE-T, Tab Vertical, 1 Port; Manufacturer: Wurth Elektronik; Improved CMRR: No; LED: yellow/green-yellow/green; Number of Ports: 1; PHY Chip Mode: current; PoE: non-PoE; Shield Tabs: Yes; Manufacturer Part Number: 74991114410; Product Series: WE-RJ45 LAN; ComponentLink1Description: Website Link; ComponentLink1URL: https://www.we-online.com; ComponentLink2Description: Datasheet Link; ComponentLink2URL: https://www.we-online.com/components/products/datasheet/74991114410; Mount: Through Hole; Operating Temperature Min: -40degC; Operating Temperature Max: 85degC; Packaging: Tray; Data Rate: 1000BASE-T; Tab: Vertical
footprint 74991114410
pins: 1 D1+, 2 D1-, 3 D2+, 4 D2-, 5, 6, 7 D3+, 8 D3-, 9 D4+, 10 D4-, 11, 12, 13, 14, SH SHIELD

## 74991114411
designator T?  (value not drawn)
WE-RJ45 LAN Transformer, THT, 1000BASE-T, Tab Down, 1 Port; Manufacturer: Wurth Elektronik; Improved CMRR: No; LED: yellow/green-yellow/green; Number of Ports: 1; PHY Chip Mode: voltage; PoE: non-PoE; Shield Tabs: Yes; Manufacturer Part Number: 74991114411; Product Series: WE-RJ45 LAN; ComponentLink1Description: Website Link; ComponentLink1URL: https://www.we-online.com; ComponentLink2Description: Datasheet Link; ComponentLink2URL: https://www.we-online.com/components/products/datasheet/74991114411; Mount: Through Hole; Operating Temperature Min: -40degC; Operating Temperature Max: 85degC; Packaging: Tray; Data Rate: 1000BASE-T; Tab: Down
footprint 74991114411
pins: 1 SIG GND, 2 D1+, 3 D1-, 4 D2+, 5 D2-, 6 D3+, 7 D3-, 8 D4+, 9 D4-, 11, 12, 13, 14, SH SHIELD

## 74991114412
designator T?  (value not drawn)
WE-RJ45 LAN Transformer, THT, 1000BASE-T, Tab Up, 1 Port; Manufacturer: Wurth Elektronik; Improved CMRR: No; LED: yellow/green-yellow/green; Number of Ports: 1; PHY Chip Mode: voltage; PoE: non-PoE; Shield Tabs: Yes; Manufacturer Part Number: 74991114412; Product Series: WE-RJ45 LAN; ComponentLink1Description: Website Link; ComponentLink1URL: https://www.we-online.com; ComponentLink2Description: Datasheet Link; ComponentLink2URL: https://www.we-online.com/components/products/datasheet/74991114412; Mount: Through Hole; Operating Temperature Min: -40degC; Operating Temperature Max: 85degC; Packaging: Tray; Data Rate: 1000BASE-T; Tab: Up
footprint 74991114412
pins: 1 SIG GND, 2 D1+, 3 D1-, 4 D2+, 5 D2-, 6 D3+, 7 D3-, 8 D4+, 9 D4-, 11, 12, 13, 14, SH SHIELD

## 74991204400
designator T?  (value not drawn)
WE-RJ45 LAN Transformer, THT, 1000BASE-T, Tab Down, 1x2 Port; Manufacturer: Wurth Elektronik; Improved CMRR: No; LED: yellow/green-yellow/green; PHY Chip Mode: voltage; PoE: non-PoE; Manufacturer Part Number: 74991204400; Product Series: WE-RJ45 LAN; ComponentLink1Description: Website Link; ComponentLink1URL: https://www.we-online.com; ComponentLink2Description: Datasheet Link; ComponentLink2URL: https://www.we-online.com/components/products/datasheet/74991204400; Mount: Through Hole; Operating Temperature Min: -40degC; Operating Temperature Max: 85degC; Packaging: Tray; Data Rate: 1000BASE-T; Number of Ports: 1x2; Shield Tabs: No; Tab: Down
footprint 74991204400
pins: A1 SIG GND, A2 D1+, A3 D1-, A4 D2+, A5 D2-, A6 D3+, A7 D3-, A8 D4+, A9 D4-, A11, A12, A13, A14, B1 SIG GND, B2 D1+, B3 D1-, B4 D2+, B5 D2-, B6 D3+, B7 D3-, B8 D4+, B9 D4-, B11, B12, B13, B14, SH SHIELD

## 74991214400
designator T?  (value not drawn)
WE-RJ45 LAN Transformer, THT, 1000BASE-T, Tab Down, 1x2 Port; Manufacturer: Wurth Elektronik; Improved CMRR: No; LED: yellow/green-yellow/green; PHY Chip Mode: voltage; PoE: non-PoE; Shield Tabs: Yes; Manufacturer Part Number: 74991214400; Product Series: WE-RJ45 LAN; ComponentLink1Description: Website Link; ComponentLink1URL: https://www.we-online.com; ComponentLink2Description: Datasheet Link; ComponentLink2URL: https://www.we-online.com/components/products/datasheet/74991214400; Mount: Through Hole; Operating Temperature Min: -40degC; Operating Temperature Max: 85degC; Packaging: Tray; Data Rate: 1000BASE-T; Number of Ports: 1x2; Tab: Down
footprint 74991214400
pins: A1 SIG GND, A2 D1+, A3 D1-, A4 D2+, A5 D2-, A6 D3+, A7 D3-, A8 D4+, A9 D4-, A11, A12, A13, A14, B1 SIG GND, B2 D1+, B3 D1-, B4 D2+, B5 D2-, B6 D3+, B7 D3-, B8 D4+, B9 D4-, B11, B12, B13, B14, SH SHIELD